# Altium footprint library battery (2).PCBLIB: 43 footprints (part 2 of 3)
Each footprint in its own frame and in the unit in brackets; x right, y up, seen from the top. Pads: shape width x height; smd on the part's side, far side on the other; paste and mask are expansions set on the pad; w line width, h text height; cw(c..) or ccw(c..) is an arc to the next point about the centre after c.
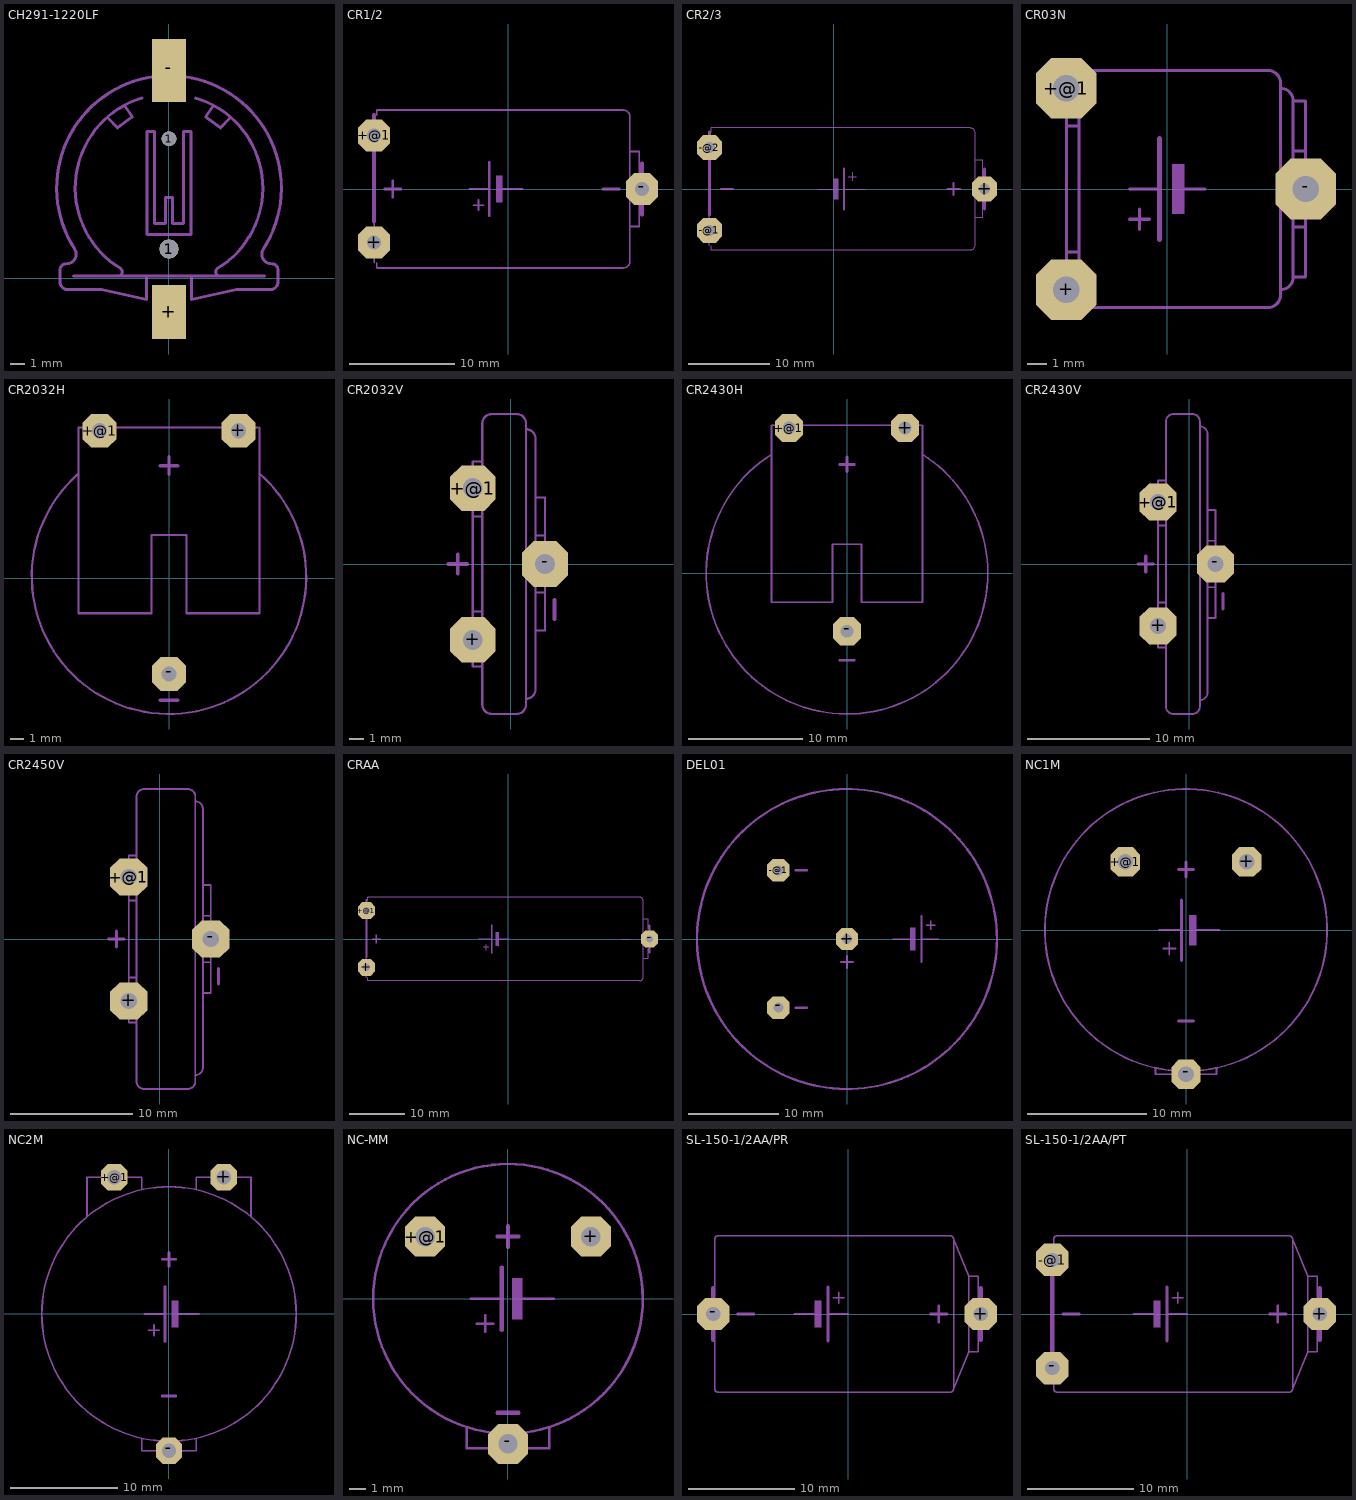
[diagram p1: the footprints below, top view; thin cyan lines are the x and y axes]

## CH291-1220LF [mm]
pads (4):
  round 1.3 hole 1.3: 1(0,2)
  round 1 hole 1: 1(0,9.5)
  rect 2.3x3.66 smd: +(0,-2.295)
  rect 2.3x4.3 smd: -(0,14.146)
Mechanical 2:
  lines w0.2: -6.5,0.16 -1.521,0.16 -1.521,-1.436 -4.589,-0.758 -6.863,-0.758 cw(c-6.901,-0.24) -7.421,-0.24 -7.421,0.559 cw(c-6.993,0.569) -6.982,0.997 ccw(c-6.967,1.644) -6.424,1.995 cw(c0.002,6.145) -1.537,13.638 ; -4.125,10.887 -3.5,10.25 -2.5,11 -3,11.75 ; -3.513,0.163 ccw(c-3.458,0.438) -3.312,0.678 cw(c0.029,6.153) -1.835,12.289 ; 1.537,13.638 cw(c0.013,6.151) 6.424,1.995 ccw(c6.967,1.644) 6.982,0.997 cw(c6.993,0.569) 7.421,0.559 7.421,-0.24 cw(c6.901,-0.24) 6.863,-0.758 4.589,-0.758 1.521,-1.436 1.521,0.16 6.5,0.16 ; 1.796,12.289 cw(c-0.019,6.148) 3.312,0.678 ccw(c3.457,0.439) 3.5,0.163 ; 3,11.75 2.5,11 3.5,10.25 4.125,10.887 ; -1.5,3 -1.5,10 -1,10 -1,3.75 -0.25,3.75 -0.25,5.5 0.25,5.5 0.25,3.75 1,3.75 1,10 1.5,10 1.5,3 -1.5,3
Mechanical 18:
  rectangle: -0.9,12 0.9,15.825
  rectangle: -0.9,-3.625 0.9,-0.5
  lines w0.2: -6.5,0.16 6.5,0.16 ; -6.424,1.995 cw(c0,6.153) 6.424,1.995

## CR1/2 [mil]
pads (3):
  oct 120.06x120.06 hole 52: +(-500,-200) +@1(-500,200) -(500,0)
Mechanical 2:
  rectangle: -45,-50 -20,50
  lines w6: -490,-275 -490,-295 430,-295 ccw(c430,-270) 455,-270 455,-140 ; -490,275 -490,295 430,295 cw(c430,270) 455,270 455,140 ; -145,0 -70,0 ; -130,-60 -90,-60 ; -110,-80 -110,-40 ; -20,0 55,0 ; 455,-60 455,-140 ; 455,55 455,140 ; 490,-75 490,-140 455,-140 ; 490,75 490,140 455,140
  lines w10: -460,0 -400,0 ; -430,-30 -430,30 ; -70,-100 -70,0 -70,100 ; 355,0 415,0
  lines w16: -500,-120 -500,120
Mechanical 18:
  lines w6: -500,-275 -500,-120 ; 455,-60 455,55 ; 490,-75 490,75
  lines w16: -500,120 -500,275 ; 500,-95 500,95

## CR2/3 [mil]
pads (3):
  oct 120.06x120.06 hole 52: +(730,0) -@1(-600,-200) -@2(-600,200)
Mechanical 2:
  region: 25,50 0,50 0,-50 25,-50
  lines w6: -590,-275 -590,-295 660,-295 ccw(c660,-270) 685,-270 685,-140 ; -590,275 -590,295 660,295 cw(c660,270) 685,270 685,140 ; -75,0 0,0 ; 50,0 155,0 ; 70,60 110,60 ; 90,40 90,80 ; 685,-55 685,-140 ; 685,55 685,140 ; 720,-70 720,-140 685,-140 ; 720,70 720,140 685,140
  lines w10: -545,0 -485,0 ; 50,-100 50,0 50,100 ; 550,0 610,0 ; 580,-30 580,30
  lines w16: -600,-125 -600,125 ; 730,-95 730,-75 ; 730,75 730,95
Mechanical 18:
  lines w6: -600,-275 -600,-125 ; 685,-55 685,55 ; 720,-70 720,70
  lines w16: -600,125 -600,275 ; 730,-75 730,75

## CR03N [mil]
pads (3):
  oct 120.06x120.06 hole 52: +(-200,-200) +@1(-200,200) -(275,0)
Mechanical 2:
  rectangle: 10,-50 35,50
  lines w6: -140,-235 200,-235 ccw(c200,-210) 225,-210 225,-45 ; -140,235 200,235 cw(c200,210) 225,210 225,45 ; -75,-60 -35,-60 ; -75,0 -15,0 ; -55,-80 -55,-40 ; 35,0 75,0 ; 225,-200 ccw(c225,-175) 250,-175 ; 225,200 cw(c225,175) 250,175 ; 250,-175 250,-75 275,-75 275,-175 250,-175 ; 250,175 250,75 275,75 275,175 250,175 ; -200,-125 -200,125 -175,125 -175,-125 -200,-125
  lines w10: -15,-100 -15,0 -15,100
Mechanical 18:
  lines w6: -200,-125 -200,-235 -175,-235 -175,-125 ; -200,125 -200,235 -175,235 -175,125 ; -175,-210 ccw(c-150,-210) -150,-235 -140,-235 ; -175,210 cw(c-150,210) -150,235 -140,235 ; 225,-45 225,45 ; 250,-75 250,75 ; 275,-75 275,75

## CR2032H [mil]
pads (3):
  oct 96.82x96.82 hole 44: +(200,425) +@1(-200,425) -(0,-275)
Mechanical 2:
  lines w6: -263.7,299.13 ccw(c0,5) 395,0 ccw(c0,5) 260.64,301.84 ; -260,435 -260,-100 -50,-100 -50,125 50,125 50,-100 260,-100 260,435 ; -140,435 140,435
  lines w10: -25,-350 25,-350 ; -25,325 25,325 ; 0,300 0,350
Mechanical 18:
  lines w6: -260,435 -140,435 ; 140,435 255,435

## CR2032V [mil]
pads (3):
  oct 120.06x120.06 hole 52: +(-100,-200) +@1(-100,200) -(90,0)
Mechanical 2:
  lines w6: -100,-270 -75,-270 -75,-370 ccw(c-50,-370) -50,-395 15,-395 ccw(c15,-370) 40,-370 40,-45 ; -100,270 -75,270 -75,370 cw(c-50,370) -50,395 15,395 cw(c15,370) 40,370 40,45 ; 40,-355 ccw(c40,-330) 65,-330 65,-175 ; 40,355 cw(c40,330) 65,330 65,175 ; 65,-175 65,-75 90,-75 90,-175 65,-175 ; 65,175 65,75 90,75 90,175 65,175 ; -100,-125 -100,125 -75,125 -75,-125 -100,-125
  lines w10: -165,0 -115,0 ; -140,-25 -140,25 ; 115,-145 115,-95
Mechanical 18:
  lines w6: -100,-270 -100,-125 ; -100,125 -100,270 ; -75,-270 -75,-125 ; -75,125 -75,270 ; 40,-45 40,45 ; 65,-75 65,75 ; 90,-75 90,75

## CR2430H [mil]
pads (3):
  oct 96.82x96.82 hole 44: +(200,500) +@1(-200,500) -(0,-200)
Mechanical 2:
  lines w6: -262.01,408.13 ccw(c0,0) 485,0 ccw(c0,0) 259.74,409.59 ; -260,510 -260,-100 -50,-100 -50,100 50,100 50,-100 260,-100 260,510 ; -140,510 140,510
  lines w10: -25,-300 25,-300 ; -25,375 25,375 ; 0,350 0,400
Mechanical 18:
  lines w6: -260,510 -140,510 ; 140,510 255,510

## CR2430V [mil]
pads (3):
  oct 120.06x120.06 hole 52: +(-100,-200) +@1(-100,200) -(85,0)
Mechanical 2:
  lines w6: -100,-270 -75,-270 -75,-460 ccw(c-50,-460) -50,-485 10,-485 ccw(c10,-460) 35,-460 35,-45 ; -100,270 -75,270 -75,460 cw(c-50,460) -50,485 10,485 cw(c10,460) 35,460 35,45 ; 35,-440 ccw(c35,-415) 60,-415 60,-175 ; 35,445 cw(c35,420) 60,420 60,175 ; 60,-175 60,-75 85,-75 85,-175 60,-175 ; 60,175 60,75 85,75 85,175 60,175 ; -100,-125 -100,125 -75,125 -75,-125 -100,-125
  lines w10: -165,0 -115,0 ; -140,-25 -140,25 ; 110,-145 110,-95
Mechanical 18:
  lines w6: -100,-270 -100,-125 ; -100,125 -100,270 ; -75,-270 -75,-125 ; -75,125 -75,270 ; 35,-45 35,45 ; 60,-75 60,75 ; 85,-75 85,75

## CR2450V [mil]
pads (3):
  oct 120.06x120.06 hole 52: +(-100,-200) +@1(-100,200) -(165,0)
Mechanical 2:
  lines w6: -100,-270 -75,-270 -75,-460 ccw(c-50,-460) -50,-485 90,-485 ccw(c90,-460) 115,-460 115,-45 ; -100,270 -75,270 -75,460 cw(c-50,460) -50,485 90,485 cw(c90,460) 115,460 115,45 ; 115,-440 ccw(c115,-415) 140,-415 140,-175 ; 115,445 cw(c115,420) 140,420 140,175 ; 140,-175 140,-75 165,-75 165,-175 140,-175 ; 140,175 140,75 165,75 165,175 140,175 ; -100,-125 -100,125 -75,125 -75,-125 -100,-125
  lines w10: -165,0 -115,0 ; -140,-25 -140,25 ; 190,-145 190,-95
Mechanical 18:
  lines w6: -100,-270 -100,-125 ; -100,125 -100,270 ; -75,-270 -75,-125 ; -75,125 -75,270 ; 115,-45 115,45 ; 140,-75 140,75 ; 165,-75 165,75

## CRAA [mil]
pads (3):
  oct 120.06x120.06 hole 52: +(-1000,-200) +@1(-1000,200) -(1000,0)
Mechanical 2:
  rectangle: -90,-50 -65,50
  lines w6: -990,-275 -990,-295 930,-295 ccw(c930,-270) 955,-270 955,-140 ; -990,275 -990,295 930,295 cw(c930,270) 955,270 955,140 ; -205,0 -115,0 ; -175,-60 -135,-60 ; -155,-80 -155,-40 ; -65,0 10,0 ; 805,0 865,0 ; 955,-50 955,-140 ; 955,50 955,140 ; 990,-70 990,-140 955,-140 ; 990,70 990,140 955,140
  lines w10: -960,0 -900,0 ; -930,-30 -930,30 ; -115,-100 -115,0 -115,100
  lines w16: -1000,-125 -1000,125
Mechanical 18:
  lines w6: -1000,-275 -1000,-125 ; 955,-50 955,50
  lines w16: -1000,125 -1000,275 ; 1000,-95 1000,95

## DEL01 [mil]
pads (3):
  oct 96.82x96.82 hole 44: +(0,0) -(-300,-300) -@1(-300,300)
Mechanical 2:
  circle w10: c0,0 r655
  rectangle: 275,-50 300,50
  lines w6: 200,0 275,0 ; 325,0 400,0 ; 345,60 385,60 ; 365,40 365,80
  lines w10: -225,-300 -175,-300 ; -225,300 -175,300 ; -25,-100 25,-100 ; 0,-125 0,-75 ; 325,-100 325,0 325,100

## NC1M [mil]
pads (3):
  oct 96.82x96.82 hole 52: +(200,225) +@1(-200,225) -(0,-475)
Mechanical 2:
  rectangle: 10,-50 35,50
  lines w6: -100,-454.13 -100,-475 -60,-475 ; -90,0 -15,0 ; -75,-60 -35,-60 ; -58.42,-461.32 cw(c0,0.02) 58.42,-461.32 ; -55,-80 -55,-40 ; 35,0 110,0 ; 60,-475 100,-475 100,-454.13
  lines w10: -25,-300 25,-300 ; -25,200 25,200 ; -15,-100 -15,0 -15,100 ; 0,175 0,225
Mechanical 18:
  lines w6: -60,-475 60,-475 ; -58.42,-461.32 ccw(c0,0.02) 58.42,-461.32

## NC2M [mil]
pads (3):
  oct 96.82x96.82 hole 52: +(200,500) +@1(-200,500) -(0,-500)
Mechanical 2:
  rectangle: 10,-50 35,50
  lines w6: -300,355.28 -300,500 -260,500 ; -140,500 -100,500 -100,454.13 ; -100,-455 -100,-500 -60,-500 ; -90,0 -15,0 ; -75,-60 -35,-60 ; -55,-80 -55,-40 ; -46.94,-462.63 cw(c0,0.03) 46.94,-462.63 ; 35,0 110,0 ; 60,-500 100,-500 100,-455 ; 100,454.13 100,500 140,500 ; 260,500 300,500 300,355
  lines w10: -25,-300 25,-300 ; -25,200 25,200 ; -15,-100 -15,0 -15,100 ; 0,175 0,225
Mechanical 18:
  lines w6: -260,500 -140,500 ; -60,-500 60,-500 ; -46.94,-462.63 ccw(c0,0.03) 46.94,-462.63 ; 140,500 260,500

## NC-MM [mil]
pads (3):
  oct 96.82x96.82 hole 47: +(200,150) +@1(-200,150) -(0,-350)
Mechanical 2:
  rectangle: 10,-50 35,50
  lines w6: -100,-310 -100,-360 -65,-360 ; -90,0 -15,0 ; -75,-60 -35,-60 ; -58.14,-319.76 cw(c0,0) -325,0 cw(c0,0) 61.03,-319.22 ; -55,-80 -55,-40 ; 35,0 110,0 ; 65,-360 100,-360 100,-310
  lines w10: -25,-275 25,-275 ; -25,150 25,150 ; -15,-75 -15,0 -15,75 ; 0,125 0,175
Mechanical 18:
  circle w6: c0,0 r325
  lines w6: -65,-360 65,-360

## SL-150-1/2AA/PR [mil]
pads (2):
  oct 120.06x120.06 hole 52: +(490,0) -(-500,0)
Mechanical 2:
  rectangle: -125,-50 -100,50
  lines w6: -495,-80 -495,-275 ccw(c-480,-275) -480,-290 375,-290 ccw(c375,-275) 390,-275 ; -495,80 -495,275 cw(c-480,275) -480,290 375,290 cw(c375,275) 390,275 ; -200,0 -125,0 ; -75,0 0,0 ; -55,60 -15,60 ; -35,40 -35,80 ; 445,-60 445,-140 ; 445,55 445,140 ; 480,-75 480,-140 445,-140 ; 480,75 480,140 445,140 ; 390,-275 445,-140 ; 390,-275 390,275 ; 390,275 445,140
  lines w10: -410,0 -350,0 ; -75,-100 -75,0 -75,100 ; 305,0 365,0 ; 335,-30 335,30
Mechanical 18:
  lines w6: 445,-60 445,55 ; 480,-75 480,75
  lines w16: -500,-95 -500,95 ; 490,-95 490,95

## SL-150-1/2AA/PT [mil]
pads (3):
  oct 120.06x120.06 hole 52: +(490,0) -(-500,-200) -@1(-500,200)
Mechanical 2:
  rectangle: -125,-50 -100,50
  lines w6: -495,-270 -495,-275 ccw(c-480,-275) -480,-290 375,-290 ccw(c375,-275) 390,-275 ; -495,270 -495,275 cw(c-480,275) -480,290 375,290 cw(c375,275) 390,275 ; -200,0 -125,0 ; -75,0 0,0 ; -55,60 -15,60 ; -35,40 -35,80 ; 445,-60 445,-140 ; 445,55 445,140 ; 480,-75 480,-140 445,-140 ; 480,75 480,140 445,140 ; 390,-275 445,-140 ; 390,-275 390,275 ; 390,275 445,140
  lines w10: -460,0 -400,0 ; -75,-100 -75,0 -75,100 ; 305,0 365,0 ; 335,-30 335,30
  lines w16: -500,-120 -500,120
Mechanical 18:
  lines w6: -495,-270 -495,-215 ; -495,215 -495,270 ; 445,-60 445,55 ; 480,-75 480,75
  lines w16: -500,-215 -500,-120 ; -500,120 -500,215 ; 490,-95 490,95